# Altium integrated library MCUBE_Sensors.IntLib: 1 symbol
Pins are listed as number, name and electrical type; pins without a type are passive.

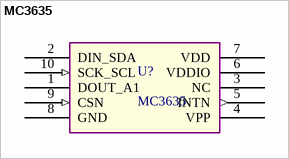
[diagram p0: symbol MC3635]

## MC3635
designator U?
MC3635 3-Axis Accelerometer; ComponentLink1URL: http://www.mcubemems.com/wp-content/uploads/2017/09/MC3635-Datasheet-APS-048-0044v1.5.pdf; Supplier 1: Mouser; Supplier Part Number 1: 498-MC3635
footprint MCUBE_MC3635_40P16X16-10 (LEAD WIDTH 0.2mm, LEAD LENGTH 0.3mm, LEAD PITCH 0.4mm, BODY SIZE 1.6X1.6 mm)
pins: 1 DOUT_A1 "SPI data output,  I2C address bit 1", 2 DIN_SDA "SPI data In,  I2C serial data input/output", 3 NC "No connect", 4 VPP (power) "Connect to GND", 5 INTN (out) "Interrupt active LOW", 6 VDDIO (power) "Power supply for interface", 7 VDD (power) "Power supply for internal", 8 GND (power) "Ground", 9 CSN (in) "SPI Chip Select", 10 SCK_SCL (in) "SPI Clock, I2C serial clock input"